# Altium footprint library PIPE.PcbLib: 1 footprints
Each footprint in its own frame and in the unit in brackets; x right, y up, seen from the top. Pads: shape width x height; smd on the part's side, far side on the other; paste and mask are expansions set on the pad; w line width, h text height; cw(c..) or ccw(c..) is an arc to the next point about the centre after c.
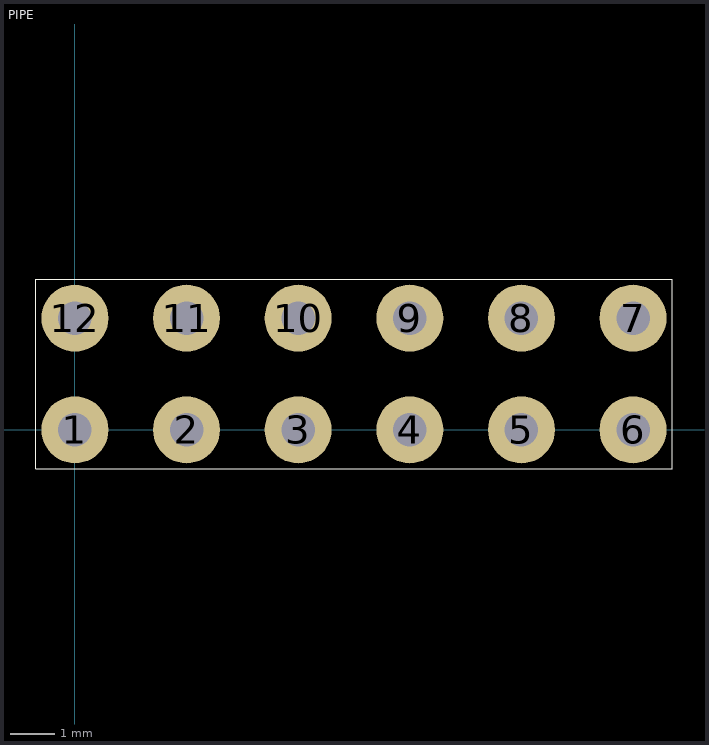
[diagram p0: the footprint, top view; thin cyan lines are the x and y axes]

## PIPE [mil]
pads (12):
  round 60 hole 30: 1(0,0) 2(100,0) 3(200,0) 4(300,0) 5(400,0) 6(500,0) 7(500,100) 8(400,100) 9(300,100) 10(200,100) 11(100,100) 12(0,100)
Top Overlay:
  lines w0.39: -35,-35 535,-35 535,135 -35,135 -35,-35